# Altium footprint library IPC-7359 QFN_Sq_50P_Side_L.PcbLib: 92 footprints (part 1 of 6)
Each footprint in its own frame and in the unit in brackets; x right, y up, seen from the top. Pads: shape width x height; smd on the part's side, far side on the other; paste and mask are expansions set on the pad; w line width, h text height; cw(c..) or ccw(c..) is an arc to the next point about the centre after c.
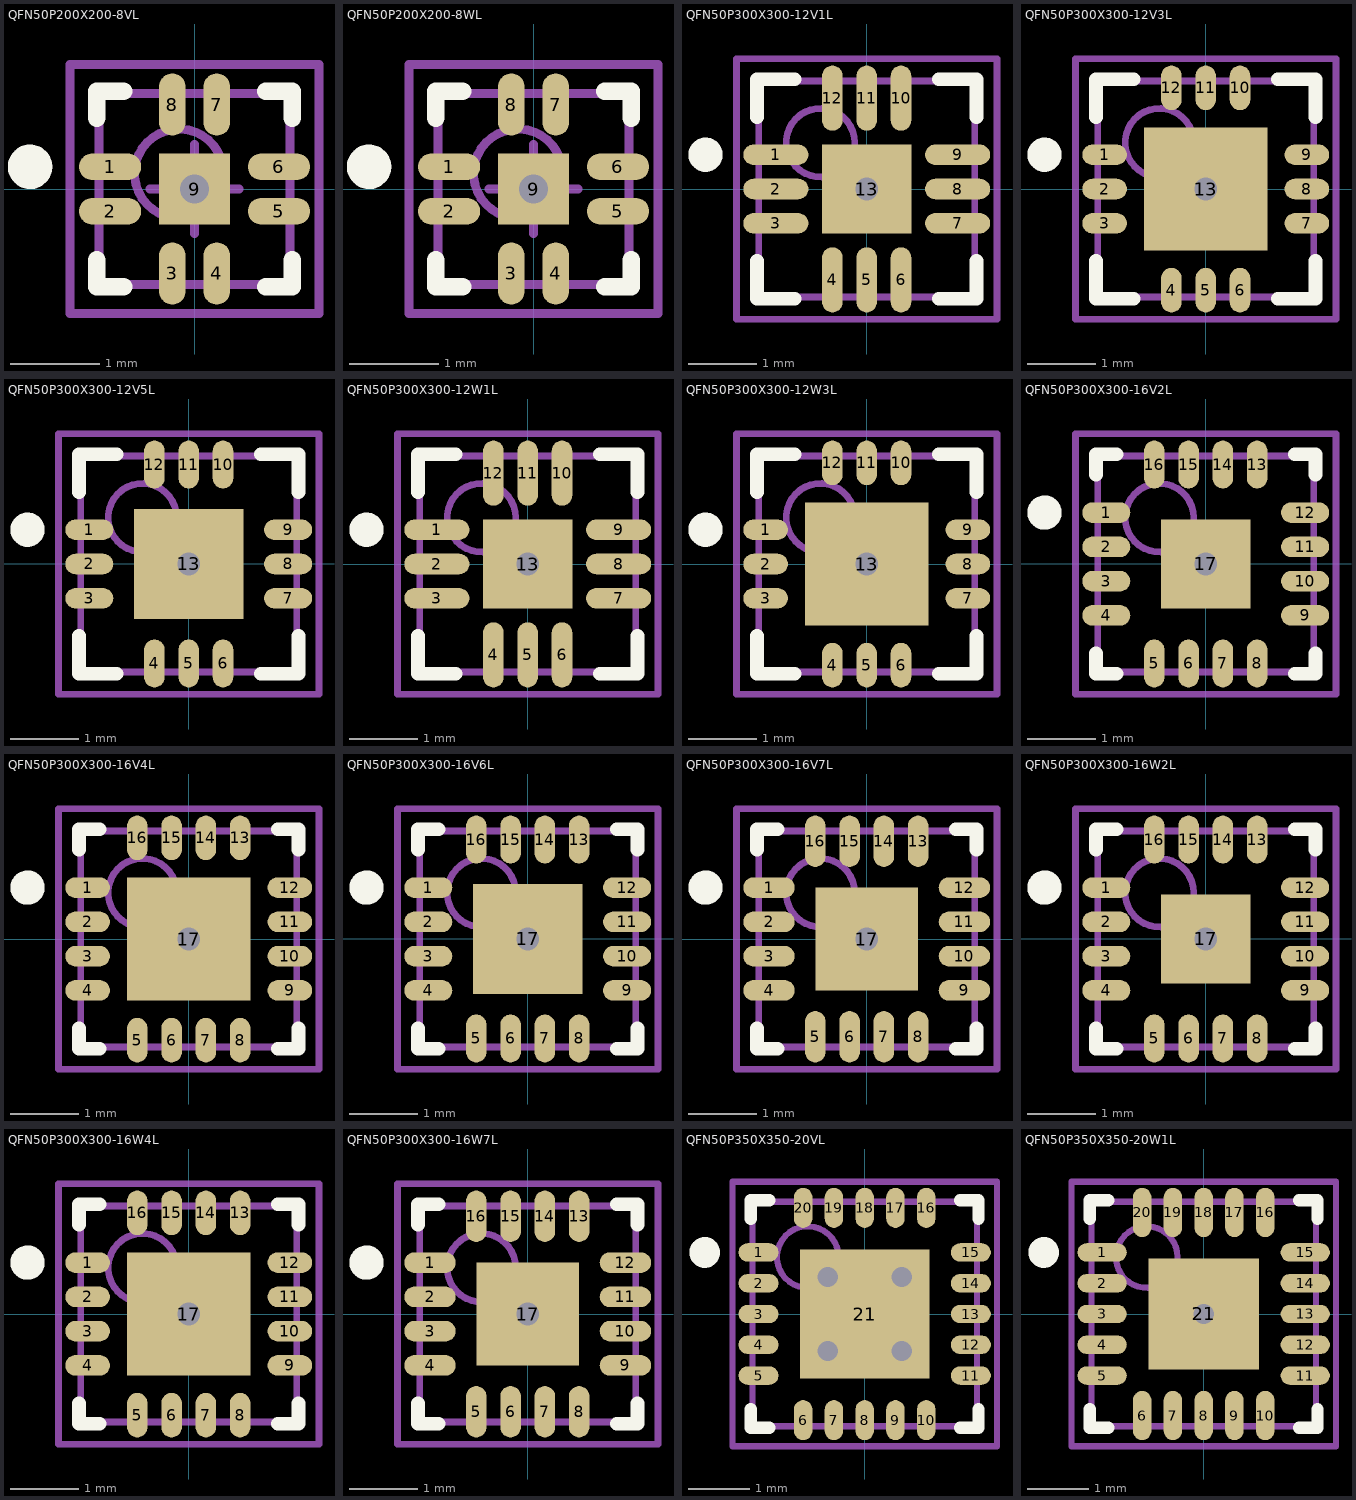
[diagram p0: the footprints below, top view; thin cyan lines are the x and y axes]

## QFN50P200X200-8VL [mm] "QFN, 8-Leads, Body 2x2mm, Pitch 0.5mm, IPC High Density"
height 1
pads (9):
  oval 0.7x0.3 smd: 1(-0.95,0.25) 2(-0.95,-0.25) 5(0.95,-0.25) 6(0.95,0.25)
  oval 0.3x0.7 smd: 3(-0.25,-0.95) 4(0.25,-0.95) 7(0.25,0.95) 8(-0.25,0.95)
  rect 0.8x0.8 smd: 9(0,0)
via 0,0 diameter 0.66 hole 0.33
Top Overlay:
  circle w0.25: c-1.85,0.25 r0.125
  lines w0.2: -1.1,-0.8 -1.1,-1.1 -0.8,-1.1 ; -1.1,0.8 -1.1,1.1 -0.8,1.1 ; 0.8,-1.1 1.1,-1.1 1.1,-0.8 ; 0.8,1.1 1.1,1.1 1.1,0.8
Mechanical 13:
  circle w0.1: c-0.175,0.175 r0.5
  lines w0.1: -1.075,-1.075 1.075,-1.075 1.075,1.075 -1.075,1.075 -1.075,-1.075
Mechanical 15:
  lines w0.1: -0.5,0 0.5,0 ; 0,-0.5 0,0.5 ; -1.4,-1.4 1.4,-1.4 1.4,1.4 -1.4,1.4 -1.4,-1.4
3D body: height 1, standoff 0, extent -1.075,-1.075 1.075,1.075

## QFN50P200X200-8WL [mm] "QFN, 8-Leads, Body 2x2mm, Pitch 0.5mm, IPC High Density"
height 0.8
pads (9):
  oval 0.7x0.3 smd: 1(-0.95,0.25) 2(-0.95,-0.25) 5(0.95,-0.25) 6(0.95,0.25)
  oval 0.3x0.7 smd: 3(-0.25,-0.95) 4(0.25,-0.95) 7(0.25,0.95) 8(-0.25,0.95)
  rect 0.8x0.8 smd: 9(0,0)
via 0,0 diameter 0.66 hole 0.33
Top Overlay:
  circle w0.25: c-1.85,0.25 r0.125
  lines w0.2: -1.1,-0.8 -1.1,-1.1 -0.8,-1.1 ; -1.1,0.8 -1.1,1.1 -0.8,1.1 ; 0.8,-1.1 1.1,-1.1 1.1,-0.8 ; 0.8,1.1 1.1,1.1 1.1,0.8
Mechanical 13:
  circle w0.1: c-0.175,0.175 r0.5
  lines w0.1: -1.075,-1.075 1.075,-1.075 1.075,1.075 -1.075,1.075 -1.075,-1.075
Mechanical 15:
  lines w0.1: -0.5,0 0.5,0 ; 0,-0.5 0,0.5 ; -1.4,-1.4 1.4,-1.4 1.4,1.4 -1.4,1.4 -1.4,-1.4
3D body: height 0.8, standoff 0, extent -1.075,-1.075 1.075,1.075

## QFN50P300X300-12V1L [mm] "QFN, 12-Leads, Body 3x3mm, Pitch 0.5mm, IPC High Density"
height 1
pads (13):
  oval 0.95x0.3 smd: 1(-1.325,0.5) 2(-1.325,0) 3(-1.325,-0.5) 7(1.325,-0.5) 8(1.325,0) 9(1.325,0.5)
  oval 0.3x0.95 smd: 4(-0.5,-1.325) 5(0,-1.325) 6(0.5,-1.325) 10(0.5,1.325) 11(0,1.325) 12(-0.5,1.325)
  rect 1.3x1.3 smd: 13(0,0)
via 0,0 diameter 0.66 hole 0.33
Top Overlay:
  circle w0.25: c-2.35,0.5 r0.125
  lines w0.2: -1.6,-1.05 -1.6,-1.6 -1.05,-1.6 ; -1.6,1.05 -1.6,1.6 -1.05,1.6 ; 1.05,-1.6 1.6,-1.6 1.6,-1.05 ; 1.05,1.6 1.6,1.6 1.6,1.05
Mechanical 13:
  circle w0.1: c-0.675,0.675 r0.5
  lines w0.1: -1.575,-1.575 1.575,-1.575 1.575,1.575 -1.575,1.575 -1.575,-1.575
Mechanical 15:
  lines w0.1: -0.5,0 0.5,0 ; 0,-0.5 0,0.5 ; -1.9,-1.9 1.9,-1.9 1.9,1.9 -1.9,1.9 -1.9,-1.9
3D body: height 1, standoff 0, extent -1.575,-1.575 1.575,1.575

## QFN50P300X300-12V3L [mm] "QFN, 12-Leads, Body 3x3mm, Pitch 0.5mm, IPC High Density"
height 1
pads (13):
  oval 0.65x0.3 smd: 1(-1.475,0.5) 2(-1.475,0) 3(-1.475,-0.5) 7(1.475,-0.5) 8(1.475,0) 9(1.475,0.5)
  oval 0.3x0.65 smd: 4(-0.5,-1.475) 5(0,-1.475) 6(0.5,-1.475) 10(0.5,1.475) 11(0,1.475) 12(-0.5,1.475)
  rect 1.8x1.8 smd: 13(0,0)
via 0,0 diameter 0.66 hole 0.33
Top Overlay:
  circle w0.25: c-2.35,0.5 r0.125
  lines w0.2: -1.6,-1.05 -1.6,-1.6 -1.05,-1.6 ; -1.6,1.05 -1.6,1.6 -1.05,1.6 ; 1.05,-1.6 1.6,-1.6 1.6,-1.05 ; 1.05,1.6 1.6,1.6 1.6,1.05
Mechanical 13:
  circle w0.1: c-0.675,0.675 r0.5
  lines w0.1: -1.575,-1.575 1.575,-1.575 1.575,1.575 -1.575,1.575 -1.575,-1.575
Mechanical 15:
  lines w0.1: -0.5,0 0.5,0 ; 0,-0.5 0,0.5 ; -1.9,-1.9 1.9,-1.9 1.9,1.9 -1.9,1.9 -1.9,-1.9
3D body: height 1, standoff 0, extent -1.575,-1.575 1.575,1.575

## QFN50P300X300-12V5L [mm] "QFN, 12-Leads, Body 3x3mm, Pitch 0.5mm, IPC High Density"
height 1
pads (13):
  oval 0.7x0.3 smd: 1(-1.45,0.5) 2(-1.45,0) 3(-1.45,-0.5) 7(1.45,-0.5) 8(1.45,0) 9(1.45,0.5)
  oval 0.3x0.7 smd: 4(-0.5,-1.45) 5(0,-1.45) 6(0.5,-1.45) 10(0.5,1.45) 11(0,1.45) 12(-0.5,1.45)
  rect 1.6x1.6 smd: 13(0,0)
via 0,0 diameter 0.66 hole 0.33
Top Overlay:
  circle w0.25: c-2.35,0.5 r0.125
  lines w0.2: -1.6,-1.05 -1.6,-1.6 -1.05,-1.6 ; -1.6,1.05 -1.6,1.6 -1.05,1.6 ; 1.05,-1.6 1.6,-1.6 1.6,-1.05 ; 1.05,1.6 1.6,1.6 1.6,1.05
Mechanical 13:
  circle w0.1: c-0.675,0.675 r0.5
  lines w0.1: -1.575,-1.575 1.575,-1.575 1.575,1.575 -1.575,1.575 -1.575,-1.575
Mechanical 15:
  lines w0.1: -0.5,0 0.5,0 ; 0,-0.5 0,0.5 ; -1.9,-1.9 1.9,-1.9 1.9,1.9 -1.9,1.9 -1.9,-1.9
3D body: height 1, standoff 0, extent -1.575,-1.575 1.575,1.575

## QFN50P300X300-12W1L [mm] "QFN, 12-Leads, Body 3x3mm, Pitch 0.5mm, IPC High Density"
height 0.8
pads (13):
  oval 0.95x0.3 smd: 1(-1.325,0.5) 2(-1.325,0) 3(-1.325,-0.5) 7(1.325,-0.5) 8(1.325,0) 9(1.325,0.5)
  oval 0.3x0.95 smd: 4(-0.5,-1.325) 5(0,-1.325) 6(0.5,-1.325) 10(0.5,1.325) 11(0,1.325) 12(-0.5,1.325)
  rect 1.3x1.3 smd: 13(0,0)
via 0,0 diameter 0.66 hole 0.33
Top Overlay:
  circle w0.25: c-2.35,0.5 r0.125
  lines w0.2: -1.6,-1.05 -1.6,-1.6 -1.05,-1.6 ; -1.6,1.05 -1.6,1.6 -1.05,1.6 ; 1.05,-1.6 1.6,-1.6 1.6,-1.05 ; 1.05,1.6 1.6,1.6 1.6,1.05
Mechanical 13:
  circle w0.1: c-0.675,0.675 r0.5
  lines w0.1: -1.575,-1.575 1.575,-1.575 1.575,1.575 -1.575,1.575 -1.575,-1.575
Mechanical 15:
  lines w0.1: -0.5,0 0.5,0 ; 0,-0.5 0,0.5 ; -1.9,-1.9 1.9,-1.9 1.9,1.9 -1.9,1.9 -1.9,-1.9
3D body: height 0.8, standoff 0, extent -1.575,-1.575 1.575,1.575

## QFN50P300X300-12W3L [mm] "QFN, 12-Leads, Body 3x3mm, Pitch 0.5mm, IPC High Density"
height 0.8
pads (13):
  oval 0.65x0.3 smd: 1(-1.475,0.5) 2(-1.475,0) 3(-1.475,-0.5) 7(1.475,-0.5) 8(1.475,0) 9(1.475,0.5)
  oval 0.3x0.65 smd: 4(-0.5,-1.475) 5(0,-1.475) 6(0.5,-1.475) 10(0.5,1.475) 11(0,1.475) 12(-0.5,1.475)
  rect 1.8x1.8 smd: 13(0,0)
via 0,0 diameter 0.66 hole 0.33
Top Overlay:
  circle w0.25: c-2.35,0.5 r0.125
  lines w0.2: -1.6,-1.05 -1.6,-1.6 -1.05,-1.6 ; -1.6,1.05 -1.6,1.6 -1.05,1.6 ; 1.05,-1.6 1.6,-1.6 1.6,-1.05 ; 1.05,1.6 1.6,1.6 1.6,1.05
Mechanical 13:
  circle w0.1: c-0.675,0.675 r0.5
  lines w0.1: -1.575,-1.575 1.575,-1.575 1.575,1.575 -1.575,1.575 -1.575,-1.575
Mechanical 15:
  lines w0.1: -0.5,0 0.5,0 ; 0,-0.5 0,0.5 ; -1.9,-1.9 1.9,-1.9 1.9,1.9 -1.9,1.9 -1.9,-1.9
3D body: height 0.8, standoff 0, extent -1.575,-1.575 1.575,1.575

## QFN50P300X300-16V2L [mm] "QFN, 16-Leads, Body 3x3mm, Pitch 0.5mm, IPC High Density"
height 1
pads (17):
  oval 0.7x0.3 smd: 1(-1.45,0.75) 2(-1.45,0.25) 3(-1.45,-0.25) 4(-1.45,-0.75) 9(1.45,-0.75) 10(1.45,-0.25) 11(1.45,0.25) 12(1.45,0.75)
  oval 0.3x0.7 smd: 5(-0.75,-1.45) 6(-0.25,-1.45) 7(0.25,-1.45) 8(0.75,-1.45) 13(0.75,1.45) 14(0.25,1.45) 15(-0.25,1.45) 16(-0.75,1.45)
  rect 1.3x1.3 smd: 17(0,0)
via 0,0 diameter 0.66 hole 0.33
Top Overlay:
  circle w0.25: c-2.35,0.75 r0.125
  lines w0.2: -1.6,-1.3 -1.6,-1.6 -1.3,-1.6 ; -1.6,1.3 -1.6,1.6 -1.3,1.6 ; 1.3,-1.6 1.6,-1.6 1.6,-1.3 ; 1.3,1.6 1.6,1.6 1.6,1.3
Mechanical 13:
  circle w0.1: c-0.675,0.675 r0.5
  lines w0.1: -1.575,-1.575 1.575,-1.575 1.575,1.575 -1.575,1.575 -1.575,-1.575
Mechanical 15:
  lines w0.1: -0.5,0 0.5,0 ; 0,-0.5 0,0.5 ; -1.9,-1.9 1.9,-1.9 1.9,1.9 -1.9,1.9 -1.9,-1.9
3D body: height 1, standoff 0, extent -1.575,-1.575 1.575,1.575

## QFN50P300X300-16V4L [mm] "QFN, 16-Leads, Body 3x3mm, Pitch 0.5mm, IPC High Density"
height 1
pads (17):
  oval 0.65x0.3 smd: 1(-1.475,0.75) 2(-1.475,0.25) 3(-1.475,-0.25) 4(-1.475,-0.75) 9(1.475,-0.75) 10(1.475,-0.25) 11(1.475,0.25) 12(1.475,0.75)
  oval 0.3x0.65 smd: 5(-0.75,-1.475) 6(-0.25,-1.475) 7(0.25,-1.475) 8(0.75,-1.475) 13(0.75,1.475) 14(0.25,1.475) 15(-0.25,1.475) 16(-0.75,1.475)
  rect 1.8x1.8 smd: 17(0,0)
via 0,0 diameter 0.66 hole 0.33
Top Overlay:
  circle w0.25: c-2.35,0.75 r0.125
  lines w0.2: -1.6,-1.3 -1.6,-1.6 -1.3,-1.6 ; -1.6,1.3 -1.6,1.6 -1.3,1.6 ; 1.3,-1.6 1.6,-1.6 1.6,-1.3 ; 1.3,1.6 1.6,1.6 1.6,1.3
Mechanical 13:
  circle w0.1: c-0.675,0.675 r0.5
  lines w0.1: -1.575,-1.575 1.575,-1.575 1.575,1.575 -1.575,1.575 -1.575,-1.575
Mechanical 15:
  lines w0.1: -0.5,0 0.5,0 ; 0,-0.5 0,0.5 ; -1.9,-1.9 1.9,-1.9 1.9,1.9 -1.9,1.9 -1.9,-1.9
3D body: height 1, standoff 0, extent -1.575,-1.575 1.575,1.575

## QFN50P300X300-16V6L [mm] "QFN, 16-Leads, Body 3x3mm, Pitch 0.5mm, IPC High Density"
height 1
pads (17):
  oval 0.7x0.3 smd: 1(-1.45,0.75) 2(-1.45,0.25) 3(-1.45,-0.25) 4(-1.45,-0.75) 9(1.45,-0.75) 10(1.45,-0.25) 11(1.45,0.25) 12(1.45,0.75)
  oval 0.3x0.7 smd: 5(-0.75,-1.45) 6(-0.25,-1.45) 7(0.25,-1.45) 8(0.75,-1.45) 13(0.75,1.45) 14(0.25,1.45) 15(-0.25,1.45) 16(-0.75,1.45)
  rect 1.6x1.6 smd: 17(0,0)
via 0,0 diameter 0.66 hole 0.33
Top Overlay:
  circle w0.25: c-2.35,0.75 r0.125
  lines w0.2: -1.6,-1.3 -1.6,-1.6 -1.3,-1.6 ; -1.6,1.3 -1.6,1.6 -1.3,1.6 ; 1.3,-1.6 1.6,-1.6 1.6,-1.3 ; 1.3,1.6 1.6,1.6 1.6,1.3
Mechanical 13:
  circle w0.1: c-0.675,0.675 r0.5
  lines w0.1: -1.575,-1.575 1.575,-1.575 1.575,1.575 -1.575,1.575 -1.575,-1.575
Mechanical 15:
  lines w0.1: -0.5,0 0.5,0 ; 0,-0.5 0,0.5 ; -1.9,-1.9 1.9,-1.9 1.9,1.9 -1.9,1.9 -1.9,-1.9
3D body: height 1, standoff 0, extent -1.575,-1.575 1.575,1.575

## QFN50P300X300-16V7L [mm] "QFN, 16-Leads, Body 3x3mm, Pitch 0.5mm, IPC High Density"
height 1
pads (17):
  oval 0.75x0.3 smd: 1(-1.425,0.75) 2(-1.425,0.25) 3(-1.425,-0.25) 4(-1.425,-0.75) 9(1.425,-0.75) 10(1.425,-0.25) 11(1.425,0.25) 12(1.425,0.75)
  oval 0.3x0.75 smd: 5(-0.75,-1.425) 6(-0.25,-1.425) 7(0.25,-1.425) 8(0.75,-1.425) 13(0.75,1.425) 14(0.25,1.425) 15(-0.25,1.425) 16(-0.75,1.425)
  rect 1.5x1.5 smd: 17(0,0)
via 0,0 diameter 0.66 hole 0.33
Top Overlay:
  circle w0.25: c-2.35,0.75 r0.125
  lines w0.2: -1.6,-1.3 -1.6,-1.6 -1.3,-1.6 ; -1.6,1.3 -1.6,1.6 -1.3,1.6 ; 1.3,-1.6 1.6,-1.6 1.6,-1.3 ; 1.3,1.6 1.6,1.6 1.6,1.3
Mechanical 13:
  circle w0.1: c-0.675,0.675 r0.5
  lines w0.1: -1.575,-1.575 1.575,-1.575 1.575,1.575 -1.575,1.575 -1.575,-1.575
Mechanical 15:
  lines w0.1: -0.5,0 0.5,0 ; 0,-0.5 0,0.5 ; -1.9,-1.9 1.9,-1.9 1.9,1.9 -1.9,1.9 -1.9,-1.9
3D body: height 1, standoff 0, extent -1.575,-1.575 1.575,1.575

## QFN50P300X300-16W2L [mm] "QFN, 16-Leads, Body 3x3mm, Pitch 0.5mm, IPC High Density"
height 0.8
pads (17):
  oval 0.7x0.3 smd: 1(-1.45,0.75) 2(-1.45,0.25) 3(-1.45,-0.25) 4(-1.45,-0.75) 9(1.45,-0.75) 10(1.45,-0.25) 11(1.45,0.25) 12(1.45,0.75)
  oval 0.3x0.7 smd: 5(-0.75,-1.45) 6(-0.25,-1.45) 7(0.25,-1.45) 8(0.75,-1.45) 13(0.75,1.45) 14(0.25,1.45) 15(-0.25,1.45) 16(-0.75,1.45)
  rect 1.3x1.3 smd: 17(0,0)
via 0,0 diameter 0.66 hole 0.33
Top Overlay:
  circle w0.25: c-2.35,0.75 r0.125
  lines w0.2: -1.6,-1.3 -1.6,-1.6 -1.3,-1.6 ; -1.6,1.3 -1.6,1.6 -1.3,1.6 ; 1.3,-1.6 1.6,-1.6 1.6,-1.3 ; 1.3,1.6 1.6,1.6 1.6,1.3
Mechanical 13:
  circle w0.1: c-0.675,0.675 r0.5
  lines w0.1: -1.575,-1.575 1.575,-1.575 1.575,1.575 -1.575,1.575 -1.575,-1.575
Mechanical 15:
  lines w0.1: -0.5,0 0.5,0 ; 0,-0.5 0,0.5 ; -1.9,-1.9 1.9,-1.9 1.9,1.9 -1.9,1.9 -1.9,-1.9
3D body: height 0.8, standoff 0, extent -1.575,-1.575 1.575,1.575

## QFN50P300X300-16W4L [mm] "QFN, 16-Leads, Body 3x3mm, Pitch 0.5mm, IPC High Density"
height 0.8
pads (17):
  oval 0.65x0.3 smd: 1(-1.475,0.75) 2(-1.475,0.25) 3(-1.475,-0.25) 4(-1.475,-0.75) 9(1.475,-0.75) 10(1.475,-0.25) 11(1.475,0.25) 12(1.475,0.75)
  oval 0.3x0.65 smd: 5(-0.75,-1.475) 6(-0.25,-1.475) 7(0.25,-1.475) 8(0.75,-1.475) 13(0.75,1.475) 14(0.25,1.475) 15(-0.25,1.475) 16(-0.75,1.475)
  rect 1.8x1.8 smd: 17(0,0)
via 0,0 diameter 0.66 hole 0.33
Top Overlay:
  circle w0.25: c-2.35,0.75 r0.125
  lines w0.2: -1.6,-1.3 -1.6,-1.6 -1.3,-1.6 ; -1.6,1.3 -1.6,1.6 -1.3,1.6 ; 1.3,-1.6 1.6,-1.6 1.6,-1.3 ; 1.3,1.6 1.6,1.6 1.6,1.3
Mechanical 13:
  circle w0.1: c-0.675,0.675 r0.5
  lines w0.1: -1.575,-1.575 1.575,-1.575 1.575,1.575 -1.575,1.575 -1.575,-1.575
Mechanical 15:
  lines w0.1: -0.5,0 0.5,0 ; 0,-0.5 0,0.5 ; -1.9,-1.9 1.9,-1.9 1.9,1.9 -1.9,1.9 -1.9,-1.9
3D body: height 0.8, standoff 0, extent -1.575,-1.575 1.575,1.575

## QFN50P300X300-16W7L [mm] "QFN, 16-Leads, Body 3x3mm, Pitch 0.5mm, IPC High Density"
height 0.8
pads (17):
  oval 0.75x0.3 smd: 1(-1.425,0.75) 2(-1.425,0.25) 3(-1.425,-0.25) 4(-1.425,-0.75) 9(1.425,-0.75) 10(1.425,-0.25) 11(1.425,0.25) 12(1.425,0.75)
  oval 0.3x0.75 smd: 5(-0.75,-1.425) 6(-0.25,-1.425) 7(0.25,-1.425) 8(0.75,-1.425) 13(0.75,1.425) 14(0.25,1.425) 15(-0.25,1.425) 16(-0.75,1.425)
  rect 1.5x1.5 smd: 17(0,0)
via 0,0 diameter 0.66 hole 0.33
Top Overlay:
  circle w0.25: c-2.35,0.75 r0.125
  lines w0.2: -1.6,-1.3 -1.6,-1.6 -1.3,-1.6 ; -1.6,1.3 -1.6,1.6 -1.3,1.6 ; 1.3,-1.6 1.6,-1.6 1.6,-1.3 ; 1.3,1.6 1.6,1.6 1.6,1.3
Mechanical 13:
  circle w0.1: c-0.675,0.675 r0.5
  lines w0.1: -1.575,-1.575 1.575,-1.575 1.575,1.575 -1.575,1.575 -1.575,-1.575
Mechanical 15:
  lines w0.1: -0.5,0 0.5,0 ; 0,-0.5 0,0.5 ; -1.9,-1.9 1.9,-1.9 1.9,1.9 -1.9,1.9 -1.9,-1.9
3D body: height 0.8, standoff 0, extent -1.575,-1.575 1.575,1.575

## QFN50P350X350-20VL [mm] "QFN, 20-Leads, Body 3.5x3.5mm, Pitch 0.5mm, IPC High Density"
height 1
pads (21):
  oval 0.65x0.3 smd: 1(-1.725,1) 2(-1.725,0.5) 3(-1.725,0) 4(-1.725,-0.5) 5(-1.725,-1) 11(1.725,-1) 12(1.725,-0.5) 13(1.725,0) 14(1.725,0.5) 15(1.725,1)
  oval 0.3x0.65 smd: 6(-1,-1.725) 7(-0.5,-1.725) 8(0,-1.725) 9(0.5,-1.725) 10(1,-1.725) 16(1,1.725) 17(0.5,1.725) 18(0,1.725) 19(-0.5,1.725) 20(-1,1.725)
  rect 2.1x2.1 smd: 21(0,0)
via 0.6,-0.6 diameter 0.66 hole 0.33
via -0.6,-0.6 diameter 0.66 hole 0.33
via 0.6,0.6 diameter 0.66 hole 0.33
via -0.6,0.6 diameter 0.66 hole 0.33
Top Overlay:
  circle w0.25: c-2.6,1 r0.125
  lines w0.2: -1.85,-1.55 -1.85,-1.85 -1.55,-1.85 ; -1.85,1.55 -1.85,1.85 -1.55,1.85 ; 1.55,-1.85 1.85,-1.85 1.85,-1.55 ; 1.55,1.85 1.85,1.85 1.85,1.55
Mechanical 13:
  circle w0.1: c-0.925,0.925 r0.5
  lines w0.1: -1.825,-1.825 1.825,-1.825 1.825,1.825 -1.825,1.825 -1.825,-1.825
Mechanical 15:
  lines w0.1: -0.5,0 0.5,0 ; 0,-0.5 0,0.5 ; -2.15,-2.15 2.15,-2.15 2.15,2.15 -2.15,2.15 -2.15,-2.15
3D body: height 1, standoff 0, extent -1.825,-1.825 1.825,1.825

## QFN50P350X350-20W1L [mm] "QFN, 20-Leads, Body 3.5x3.5mm, Pitch 0.5mm, IPC High Density"
height 0.8
pads (21):
  oval 0.8x0.3 smd: 1(-1.65,1) 2(-1.65,0.5) 3(-1.65,0) 4(-1.65,-0.5) 5(-1.65,-1) 11(1.65,-1) 12(1.65,-0.5) 13(1.65,0) 14(1.65,0.5) 15(1.65,1)
  oval 0.3x0.8 smd: 6(-1,-1.65) 7(-0.5,-1.65) 8(0,-1.65) 9(0.5,-1.65) 10(1,-1.65) 16(1,1.65) 17(0.5,1.65) 18(0,1.65) 19(-0.5,1.65) 20(-1,1.65)
  rect 1.8x1.8 smd: 21(0,0)
via 0,0 diameter 0.66 hole 0.33
Top Overlay:
  circle w0.25: c-2.6,1 r0.125
  lines w0.2: -1.85,-1.55 -1.85,-1.85 -1.55,-1.85 ; -1.85,1.55 -1.85,1.85 -1.55,1.85 ; 1.55,-1.85 1.85,-1.85 1.85,-1.55 ; 1.55,1.85 1.85,1.85 1.85,1.55
Mechanical 13:
  circle w0.1: c-0.925,0.925 r0.5
  lines w0.1: -1.825,-1.825 1.825,-1.825 1.825,1.825 -1.825,1.825 -1.825,-1.825
Mechanical 15:
  lines w0.1: -0.5,0 0.5,0 ; 0,-0.5 0,0.5 ; -2.15,-2.15 2.15,-2.15 2.15,2.15 -2.15,2.15 -2.15,-2.15
3D body: height 0.8, standoff 0, extent -1.825,-1.825 1.825,1.825